# EAGLE library part ADAFRUI_LIS3DH (library GIX)
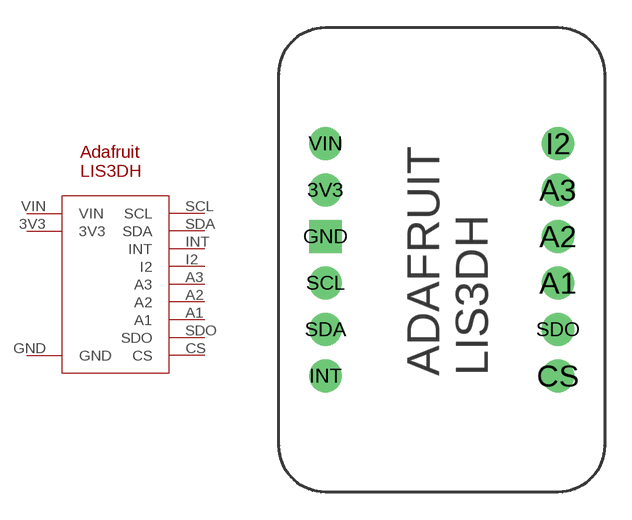
[diagram p0: symbol with the pads of ADAFRUIT_LIS3DH; footprint ADAFRUIT_LIS3DH]

Designator prefix -

## ADAFRUI_LIS3DH  [ADAFRUIT_LIS3DH]
3V3  3V3
A1  A1
A2  A2
A3  A3
CS  CS
GND  GND
I2  I2
INT  INT
SCL  SCL
SDA  SDA
SDO  SDO
VIN  VIN

## Footprint ADAFRUIT_LIS3DH (pad centres in mm)
drill 1.016 pad 1.778: 3V3 -6.35,3.81; A1 6.35,-1.27; A2 6.35,1.27; A3 6.35,3.81; CS 6.35,-6.35; I2 6.35,6.35; INT -6.35,-6.35; SCL -6.35,-1.27; SDA -6.35,-3.81; SDO 6.35,-3.81; VIN -6.35,6.35
drill 1.016 pad 1.778 square: GND -6.35,1.27